# Altium footprint library SparkFun-Electromechanical.PCBLIB: 151 footprints (part 6 of 11)
Each footprint in its own frame and in the unit in brackets; x right, y up, seen from the top. Pads: shape width x height; smd on the part's side, far side on the other; paste and mask are expansions set on the pad; w line width, h text height; cw(c..) or ccw(c..) is an arc to the next point about the centre after c.
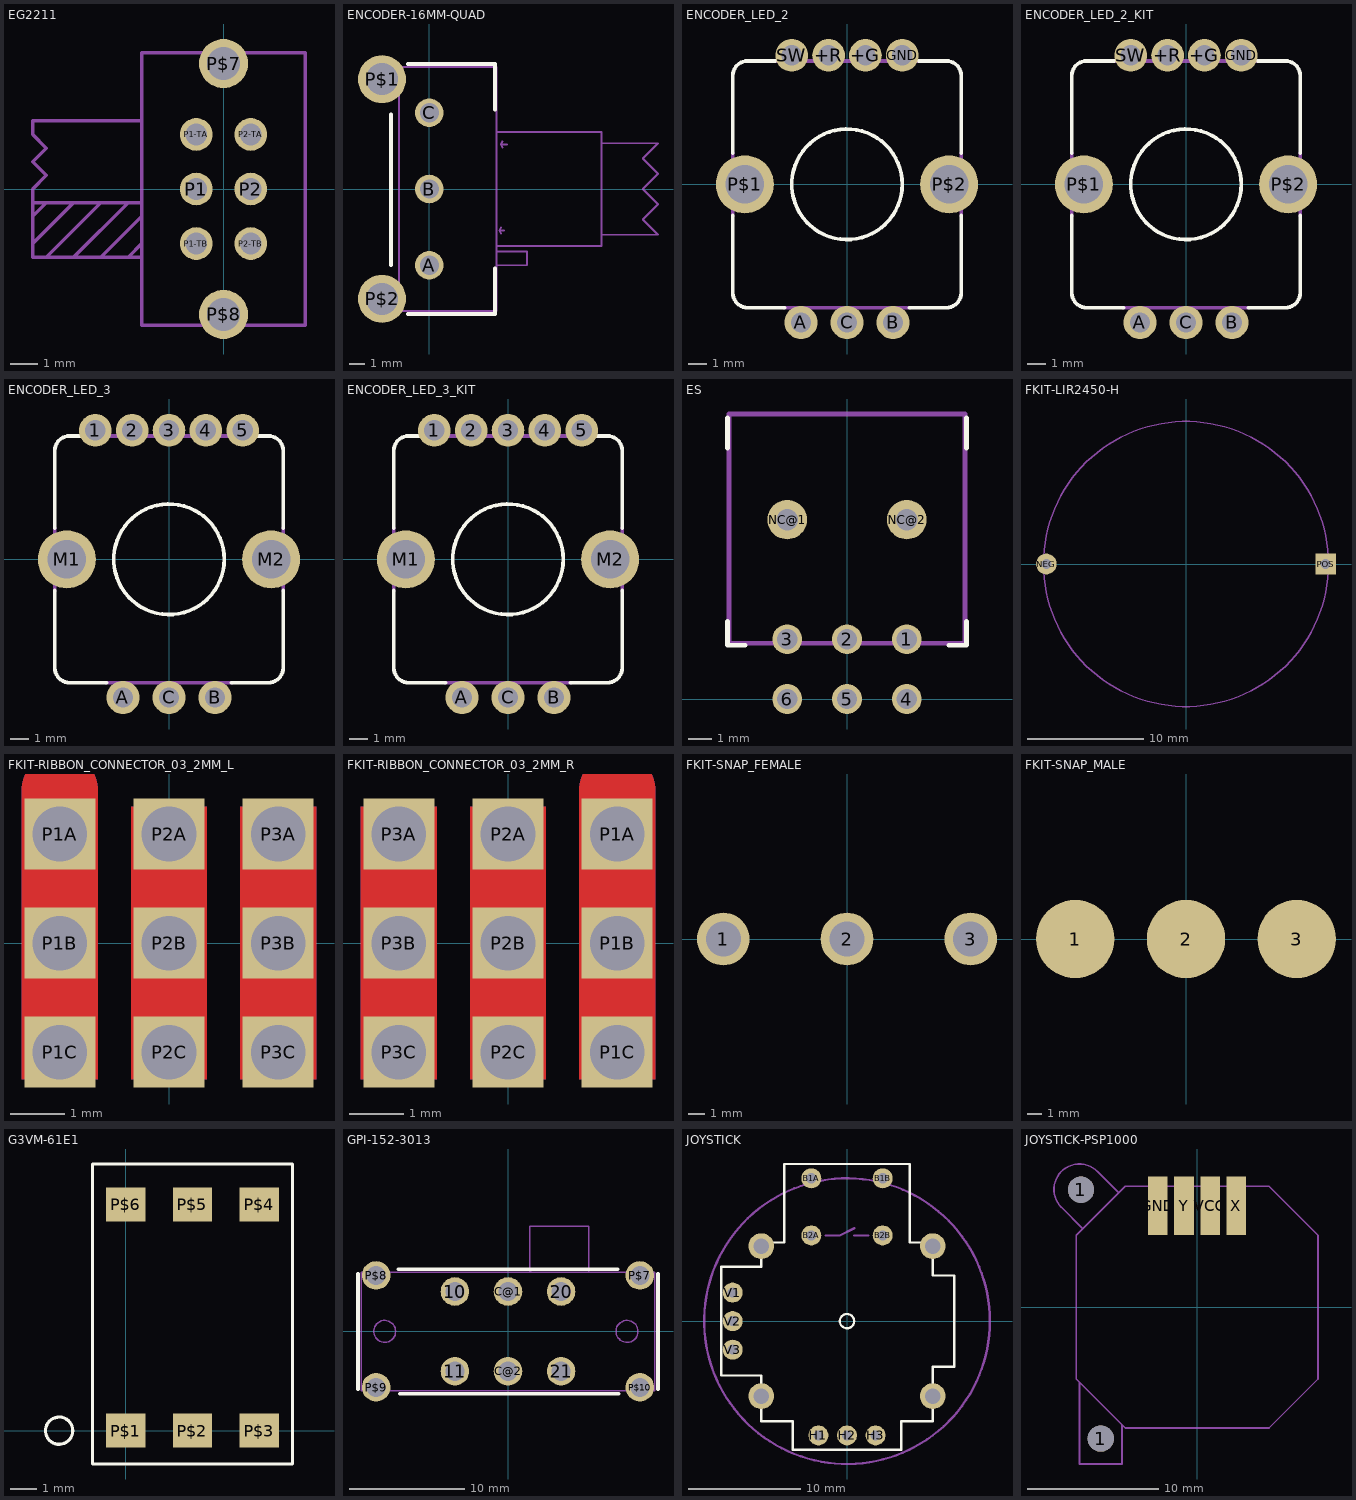
[diagram p5: the footprints below, top view; thin cyan lines are the x and y axes]

## EG2211 [mm]
pads (8):
  round 1.2 hole 0.8: P1(-1,0) P1-TA(-1,2) P1-TB(-1,-2) P2(1,0) P2-TA(1,2) P2-TB(1,-2)
  round 1.8 hole 1.2: P$7(0,4.6) P$8(0,-4.6)
Mechanical 16:
  lines w0.127: -3,-1.5 -3,-1 ; -7,-2 -7,-2.5 -6.5,-2.5 ; -7,-2 -7,-1 ; -7,-2 -5.5,-0.5 ; -7,-1 -7,-0.5 ; -7,-1 -6.5,-0.5 ; -7,-0.5 -7,0 -6.5,0.5 -7,1 -6.5,1.5 -7,2 -7,2.5 -3,2.5 ; -7,-0.5 -6.5,-0.5 ; -6.5,-2.5 -5.5,-2.5 ; -6.5,-2.5 -4.5,-0.5 ; -6.5,-0.5 -5.5,-0.5 ; -5.5,-2.5 -4.5,-2.5 ; -5.5,-2.5 -3.5,-0.5 -3,-0.5 ; -5.5,-0.5 -4.5,-0.5 ; -4.5,-2.5 -3.5,-2.5 ; -4.5,-2.5 -3,-1 ; -4.5,-0.5 -3,-0.5 ; -3.5,-2.5 -3,-2.5 ; -3.5,-2.5 -3,-2 ; -3,-2.5 -3,-2 ; -3,-2.5 -3,-5 3,-5 3,5 -3,5 -3,2.5 ; -3,-2 -3,-1 ; -3,-1 -3,-0.5 ; -3,-0.5 -3,2.5

## ENCODER-16MM-QUAD [mm]
pads (5):
  round 1.875 hole 1.25: A(0,-5) B(0,0) C(0,5)
  round 3.15 hole 2.1: P$1(-3.1,7.2) P$2(-3.1,-7.2)
Top Overlay:
  lines w0.254: -2.5,-5 -2.5,4.9 ; -1.4,-8.2 4.3,-8.2 4.3,-5.2 ; -1.4,8.2 4.3,8.2 4.3,5.2
Mechanical 16:
  lines w0.127: 4.7,-2.93 4.6,-2.73 ; 4.7,-2.53 4.6,-2.73 ; 4.8,2.73 4.7,2.93 ; 4.9,-2.73 4.6,-2.73 ; 5.1,2.93 4.7,2.93 ; 4.4,-5 4.4,-4.1 ; 4.4,-5 4.4,-8 -2,-8 -2,8 4.4,8 4.4,7 4.4,3.73 ; 4.4,-5 6.4,-5 6.4,-4.1 4.4,-4.1 ; 4.4,-4.1 4.4,-3.73 ; 4.4,-3.73 4.4,3.73 ; 4.4,-3.73 11.3,-3.73 11.3,-3 ; 4.4,3.73 11.3,3.73 11.3,3 ; 4.7,2.93 4.8,3.13 4.7,2.93 ; 11.3,-3 11.3,3 ; 11.3,-3 15,-3 14,-2 15,-1 14,0 15,1 14,2 15,3 11.3,3
  text "Mounting Surface" at 5.138,-2.114 h0.63
  text "*3mm diameter x 2mm tab at 6 o'clock (from front)" at 6.715,-4.826 h0.63

## ENCODER_LED_2 [mil]
pads (9):
  round 70 hole 43.31: +G(39.37,275.59) +R(-39.37,275.59) GND(118.11,275.59) SW(-118.11,275.59)
  round 70.87 hole 43.31: A(-98.43,-295.28) B(98.43,-295.28) C(0,-295.28)
  round 124.02 hole 82.68: P$1(-218.5,0) P$2(218.5,0)
Top Overlay:
  circle w8: c0,0 r118.11
  lines w8: -244.09,-66.93 -244.09,-232.04 ccw(c-212.35,-232.04) -212.35,-263.78 -133.86,-263.78 ; -244.09,66.93 -244.09,232.04 cw(c-212.35,232.04) -212.35,263.78 -153.54,263.78 ; 133.86,-263.78 212.35,-263.78 ccw(c212.35,-232.04) 244.09,-232.04 244.09,-66.93 ; 153.54,263.78 212.35,263.78 cw(c212.35,232.04) 244.09,232.04 244.09,66.93
Mechanical 16:
  lines w8: -244.09,-66.93 -244.09,66.93 ; -153.54,263.78 153.54,263.78 ; -133.86,-263.78 133.86,-263.78 ; 244.09,-66.93 244.09,66.93

## ENCODER_LED_2_KIT [mil]
pads (9):
  round 70 hole 43.31: +G(39.37,275.59) +R(-39.37,275.59) GND(118.11,275.59) SW(-118.11,275.59)
  round 70.87 hole 43.31: A(-98.43,-295.28) B(98.43,-295.28) C(0,-295.28)
  round 124.02 hole 82.68: P$1(-218.5,0) P$2(218.5,0)
Top Overlay:
  circle w8: c0,0 r118.11
  lines w8: -244.09,-66.93 -244.09,-232.04 ccw(c-212.35,-232.04) -212.35,-263.78 -133.86,-263.78 ; -244.09,66.93 -244.09,232.04 cw(c-212.35,232.04) -212.35,263.78 -153.54,263.78 ; 133.86,-263.78 212.35,-263.78 ccw(c212.35,-232.04) 244.09,-232.04 244.09,-66.93 ; 153.54,263.78 212.35,263.78 cw(c212.35,232.04) 244.09,232.04 244.09,66.93
Top Solder:
  region: 0,0 10,0 10,10 0,10
  region: 0,0 10,0 10,10 0,10
  region: 0,0 10,0 10,10 0,10
  region: 0,0 10,0 10,10 0,10
  region: 0,0 10,0 10,10 0,10
  region: 0,0 10,0 10,10 0,10
  region: 0,0 10,0 10,10 0,10
  region: 0,0 10,0 10,10 0,10
  region: 0,0 10,0 10,10 0,10
Bottom Solder:
  region: 0,0 10,0 10,10 0,10
  region: 0,0 10,0 10,10 0,10
  region: 0,0 10,0 10,10 0,10
  region: 0,0 10,0 10,10 0,10
  region: 0,0 10,0 10,10 0,10
  region: 0,0 10,0 10,10 0,10
  region: 0,0 10,0 10,10 0,10
  region: 0,0 10,0 10,10 0,10
  region: 0,0 10,0 10,10 0,10
Mechanical 16:
  lines w8: -244.09,-66.93 -244.09,66.93 ; -153.54,263.78 153.54,263.78 ; -133.86,-263.78 133.86,-263.78 ; 244.09,-66.93 244.09,66.93

## ENCODER_LED_3 [mil]
pads (10):
  round 70 hole 43.31: 1(-157.48,275.59) 2(-78.74,275.59) 3(0,275.59) 4(78.74,275.59) 5(157.48,275.59)
  round 70.87 hole 43.31: A(-98.43,-295.28) B(98.43,-295.28) C(0,-295.28)
  round 124.02 hole 82.68: M1(-218.5,0) M2(218.5,0)
Top Overlay:
  circle w8: c0,0 r118.11
  lines w8: -244.09,-66.93 -244.09,-232.04 ccw(c-212.35,-232.04) -212.35,-263.78 -133.86,-263.78 ; -244.09,66.93 -244.09,232.04 cw(c-212.35,232.04) -212.35,263.78 -153.54,263.78 ; 133.86,-263.78 212.35,-263.78 ccw(c212.35,-232.04) 244.09,-232.04 244.09,-66.93 ; 153.54,263.78 212.35,263.78 cw(c212.35,232.04) 244.09,232.04 244.09,66.93
Mechanical 16:
  lines w8: -244.09,-66.93 -244.09,66.93 ; -153.54,263.78 153.54,263.78 ; -133.86,-263.78 133.86,-263.78 ; 244.09,-66.93 244.09,66.93

## ENCODER_LED_3_KIT [mil]
pads (10):
  round 70 hole 43.31: 1(-157.48,275.59) 2(-78.74,275.59) 3(0,275.59) 4(78.74,275.59) 5(157.48,275.59)
  round 70.87 hole 43.31: A(-98.43,-295.28) B(98.43,-295.28) C(0,-295.28)
  round 124.02 hole 82.68: M1(-218.5,0) M2(218.5,0)
Top Overlay:
  circle w8: c0,0 r118.11
  lines w8: -244.09,-66.93 -244.09,-232.04 ccw(c-212.35,-232.04) -212.35,-263.78 -133.86,-263.78 ; -244.09,66.93 -244.09,232.04 cw(c-212.35,232.04) -212.35,263.78 -153.54,263.78 ; 133.86,-263.78 212.35,-263.78 ccw(c212.35,-232.04) 244.09,-232.04 244.09,-66.93 ; 153.54,263.78 212.35,263.78 cw(c212.35,232.04) 244.09,232.04 244.09,66.93
Top Solder:
  region: 0,0 10,0 10,10 0,10
  region: 0,0 10,0 10,10 0,10
  region: 0,0 10,0 10,10 0,10
  region: 0,0 10,0 10,10 0,10
  region: 0,0 10,0 10,10 0,10
  region: 0,0 10,0 10,10 0,10
  region: 0,0 10,0 10,10 0,10
  region: 0,0 10,0 10,10 0,10
  region: 0,0 10,0 10,10 0,10
  region: 0,0 10,0 10,10 0,10
Bottom Solder:
  region: 0,0 10,0 10,10 0,10
  region: 0,0 10,0 10,10 0,10
  region: 0,0 10,0 10,10 0,10
  region: 0,0 10,0 10,10 0,10
  region: 0,0 10,0 10,10 0,10
  region: 0,0 10,0 10,10 0,10
  region: 0,0 10,0 10,10 0,10
  region: 0,0 10,0 10,10 0,10
  region: 0,0 10,0 10,10 0,10
  region: 0,0 10,0 10,10 0,10
Mechanical 16:
  lines w8: -244.09,-66.93 -244.09,66.93 ; -153.54,263.78 153.54,263.78 ; -133.86,-263.78 133.86,-263.78 ; 244.09,-66.93 244.09,66.93

## ES [mil]
pads (8):
  round 50 hole 34: 1(100,100) 2(0,100) 3(-100,100) 4(100,0) 5(0,0) 6(-100,0)
  round 66 hole 35.43: NC@1(-100,300) NC@2(100,300)
Top Overlay:
  lines w8: -200,130 -200,90 -170,90 ; -200,420 -200,470 ; 170,90 200,90 200,130 ; 200,420 200,470
Mechanical 16:
  lines w8: -197.5,93.25 197.5,93.25 197.5,476.75 -197.5,476.75 -197.5,93.25

## FKIT-LIR2450-H [mil]
pads (2):
  round 70 hole 33.46: NEG(-472.44,0)
  rect 70x70 hole 33.46: POS(472.44,0)
Mechanical 16:
  circle w5: c0,0 r482.28
  text "+" at 330.71,-33.46 h155
  text "-" at -411.42,-35.43 h155

## FKIT-RIBBON_CONNECTOR_03_2MM_L [mm]
pads (9):
  rect 1.3x1.3 hole 1: P1A(-2,2) P1B(-2,0) P1C(-2,-2) P2A(0,2) P2B(0,0) P2C(0,-2) P3A(2,2) P3B(2,0) P3C(2,-2)
Top Layer:
  rectangle: -2.701,-2.5 -1.299,2.5
  rectangle: -0.701,-2.5 0.701,2.5
  rectangle: 1.299,-2.5 2.701,2.5
  lines w1.402: -2,2.5 -2,2.8
Bottom Layer:
  rectangle: -2.701,-2.5 -1.299,2.5
  rectangle: -0.701,-2.5 0.701,2.5
  rectangle: 1.299,-2.5 2.701,2.5
  lines w1.402: -2,2.5 -2,2.8
Top Solder:
  rectangle: -2.75,-2.6 -1.25,2.6
  rectangle: -0.75,-2.6 0.75,2.6
  rectangle: 1.25,-2.6 2.75,2.6
  lines w1.5: -2,2.75 -2,2.8
Bottom Solder:
  rectangle: -2.75,-2.6 -1.25,2.6
  rectangle: -0.75,-2.6 0.75,2.6
  rectangle: 1.25,-2.6 2.75,2.6
  lines w1.5: -2,2.75 -2,2.8

## FKIT-RIBBON_CONNECTOR_03_2MM_R [mm]
pads (9):
  rect 1.3x1.3 hole 1: P1A(2,2) P1B(2,0) P1C(2,-2) P2A(0,2) P2B(0,0) P2C(0,-2) P3A(-2,2) P3B(-2,0) P3C(-2,-2)
Top Layer:
  rectangle: -2.701,-2.5 -1.299,2.5
  rectangle: -0.701,-2.5 0.701,2.5
  rectangle: 1.299,-2.5 2.701,2.5
  lines w1.402: 2,2.5 2,2.8
Bottom Layer:
  rectangle: -2.701,-2.5 -1.299,2.5
  rectangle: -0.701,-2.5 0.701,2.5
  rectangle: 1.299,-2.5 2.701,2.5
  lines w1.402: 2,2.5 2,2.8
Top Solder:
  rectangle: -2.75,-2.6 -1.25,2.6
  rectangle: -0.75,-2.6 0.75,2.6
  rectangle: 1.25,-2.6 2.75,2.6
  lines w1.5: 2,2.75 2,2.8
Bottom Solder:
  rectangle: -2.75,-2.6 -1.25,2.6
  rectangle: -0.75,-2.6 0.75,2.6
  rectangle: 1.25,-2.6 2.75,2.6
  lines w1.5: 2,2.75 2,2.8

## FKIT-SNAP_FEMALE [mil]
pads (3):
  round 127.5 hole 85: 1(-300,0) 2(0,0) 3(300,0)
Top Layer:
  region: 0,0 10,0 10,10 0,10
  region: 0,0 10,0 10,10 0,10
  region: 0,0 10,0 10,10 0,10
Top Paste:
  region: 0,0 10,0 10,10 0,10
  region: 0,0 10,0 10,10 0,10
  region: 0,0 10,0 10,10 0,10
Top Solder:
  region: 0,0 10,0 10,10 0,10
  region: 0,0 10,0 10,10 0,10
  region: 0,0 10,0 10,10 0,10

## FKIT-SNAP_MALE [mil]
pads (3):
  rrect100% 212x212 smd: 1(-300,0) 2(0,0) 3(300,0)

## G3VM-61E1 [mm]
pads (6):
  rect 1.5x1.3 smd: P$1(0,0) P$2(2.54,0) P$3(5.08,0) P$4(5.08,8.62) P$5(2.54,8.62) P$6(0,8.62)
Top Overlay:
  circle w0.127: c-2.54,0 r0.519
  lines w0.127: -1.27,-1.27 -1.27,10.16 6.35,10.16 6.35,-1.27 -1.27,-1.27

## GPI-152-3013 [mm]
pads (10):
  round 2.475 hole 1.65: 10(-4.6,3.455) 11(-4.6,-3.455) 20(4.6,3.455) 21(4.6,-3.455) C@1(0,3.455) C@2(0,-3.455) P$7(11.43,4.85) P$8(-11.43,4.85) P$9(-11.43,-4.85) P$10(11.43,-4.85)
Top Overlay:
  lines w0.305: -13,-5 -13,5 ; -9.5,5.4 9.5,5.4 ; -9.4,-5.4 9.6,-5.4 ; 13,-5 13,5
Mechanical 16:
  circle w0.127: c10.31,0 r0.952
  circle w0.127: c-10.69,0 r0.952
  lines w0.127: 2,5.2 1.9,5.2 1.9,9.1 7,9.1 7,5.2 ; -12.7,-5.13 -12.7,5.13 12.7,5.13 12.7,-5.13 -12.7,-5.13

## JOYSTICK [mil]
pads (14):
  round 70 hole 35.43: B1A(-125,500) B1B(125,500) B2A(-125,300) B2B(125,300)
  round 70 hole 35: H1(-100,-400) H2(0,-400) H3(100,-400) V1(-400,100) V2(-400,0) V3(-400,-100)
  round 90 hole 55: MOUNT1(-300,262.5) MOUNT2(-300,-262.5) MOUNT3(300,-262.5) MOUNT4(300,262.5)
Top Overlay:
  circle w8: c0,0 r25
  lines w8: -440,-190 -300,-190 -300,-350 -190,-350 -190,-450 190,-450 190,-350 300,-350 300,-160 375,-160 375,160 300,160 300,275 220,275 220,550 -220,550 -220,275 -300,275 -300,190 -440,190 -440,-190
Mechanical 16:
  circle w8: c0,0 r500
  lines w8: -75,300 -25,300 25,325 ; 25,300 75,300

## JOYSTICK-PSP1000 [mm]
pads (6):
  round 2 hole 2: 1(-8.89,8.985) 1(-7.375,-10.06)
  rect 1.5x4.5 smd: GND(-3,7.75) VCC(1,7.75) X(3,7.75) Y(-1,7.75)
Mechanical 16:
  lines w0.127: -10.4,7.658 -8.75,6 ; -10.381,7.631 cw(c-9.006,9.006) -7.631,10.381 ; -7.65,10.408 -6,8.75 ; -9,-5.75 -9.25,-5.5 -9.25,5.5 -8.75,6 ; -9,-5.75 -5.75,-9 ; -9,-5.75 -9,-12 -5.75,-12 -5.75,-9 ; -8.75,6 -6,8.75 ; -6,8.75 -5.5,9.25 5.5,9.25 9.25,5.5 9.25,-5.5 5.5,-9.25 -5.5,-9.25 -5.75,-9